# EAGLE library part NANO_SIM (library signpost)
WURTH Nano SIM Connector
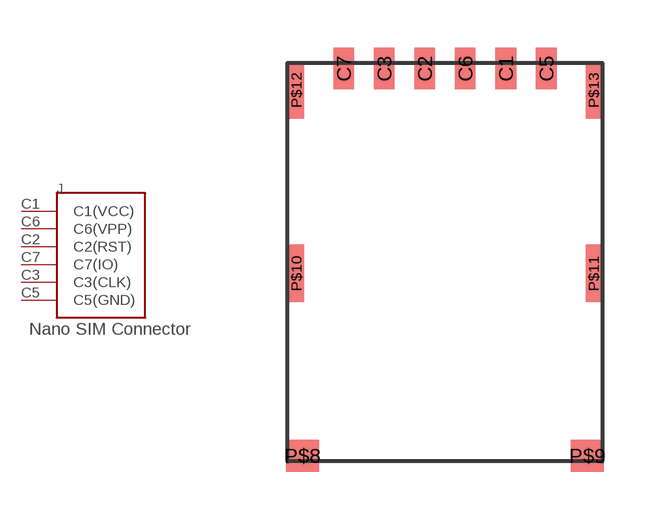
[diagram p24: symbol with the pads of WURTH_NANO_SIM; footprint WURTH_NANO_SIM]

Designator prefix J

## NANO_SIM (DIGIKEY: 732-5954-1-ND; MANUFACTURER: Wurth; MPN: 693043020611)  [WURTH_NANO_SIM]
C1  C1(VCC)
C2  C2(RST)
C3  C3(CLK)
C5  C5(GND)
C6  C6(VPP)
C7  C7(IO)

## Footprint WURTH_NANO_SIM (pad centres in mm)
smd 0.65 x 1.3: C1 1.905,6.07; C2 -0.635,6.07; C3 -1.905,6.07; C5 3.175,6.07; C6 0.635,6.07; C7 -3.175,6.07
smd 1.03 x 1: P$8 -4.465,-6.07; P$9 4.465,-6.07
smd 0.48 x 1.8: P$10 -4.66,-0.35; P$11 4.66,-0.35; P$12 -4.66,5.4; P$13 4.66,5.4